# Altium schematic symbol library SP0503-SOT143.SchLib: 1 symbol
Pins are listed as number, name and electrical type; pins without a type are passive.

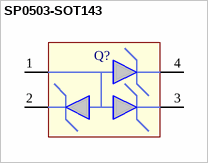
[diagram p0: symbol SP0503-SOT143]

## SP0503-SOT143
designator Q?  (value not drawn)
pins: 1, 2, 3, 4